# EAGLE library part AMPLIFIER-LM2904DR (library OPL)
DUAL OPERATIONAL AMPLIFIERS
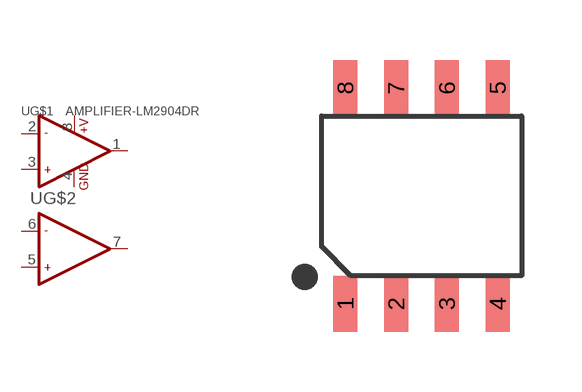
[diagram p39: symbol with the pads of SOIC-8; footprint SOIC-8]

Designator prefix U; gates G$1=OPAMP_2-1 G$2=OPAMP_2_1-1

## AMPLIFIER-LM2904DR-310020015  [SOIC-8]
1  G$1:OUT1  out
2  G$1:-IN1  in
3  G$1:+IN1  in
4  G$1:GND  pwr
5  G$2:+IN2  in
6  G$2:-IN2  in
7  G$2:OUT2  out
8  G$1:+V  pwr

## Footprint SOIC-8 (pad centres in mm)
smd 0.6 x 1.4: 1 -1.905,-2.7; 2 -0.635,-2.7; 3 0.635,-2.7; 4 1.905,-2.7; 5 1.905,2.7; 6 0.635,2.7; 7 -0.635,2.7; 8 -1.905,2.7